# Altium schematic symbol library TC7660COA.Schlib: 1 symbol
Pins are listed as number, name and electrical type; pins without a type are passive.

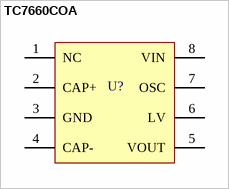
[diagram p0: symbol TC7660COA]

## TC7660COA
designator U?
Charge Pump DC-to-DC Voltage Converter
pins: 1 NC, 2 CAP+, 3 GND, 4 CAP-, 5 VOUT, 6 LV, 7 OSC, 8 VIN